# Altium footprint library CF14JT100K.PcbLib: 1 footprints
Each footprint in its own frame and in the unit in brackets; x right, y up, seen from the top. Pads: shape width x height; smd on the part's side, far side on the other; paste and mask are expansions set on the pad; w line width, h text height; cw(c..) or ccw(c..) is an arc to the next point about the centre after c.
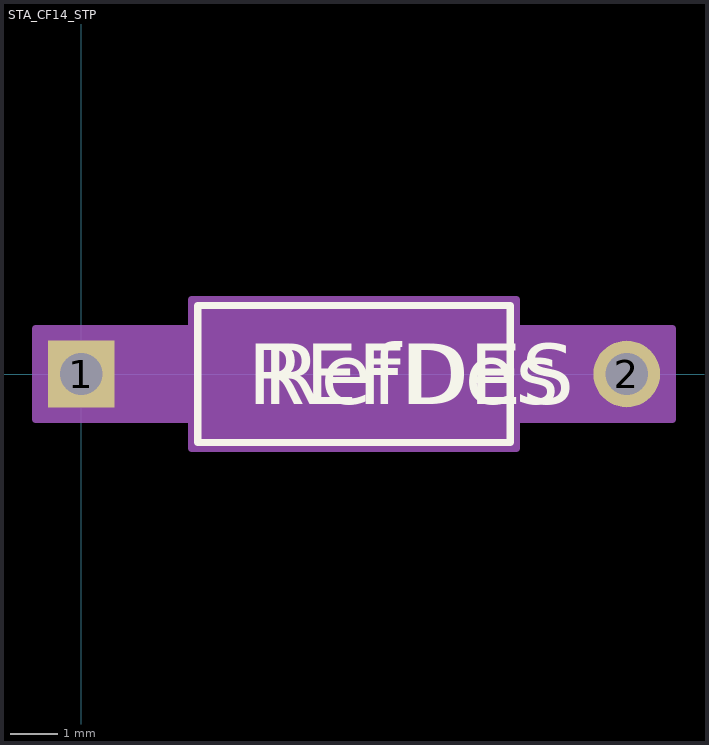
[diagram p0: the footprint, top view; thin cyan lines are the x and y axes]

## STA_CF14_STP [mil]
pads (2):
  rect 55x55 / inner round 60 / far side rect 55x55 hole 35 paste-27.5 mask+0: 1(0,0)
  round 55 / inner round 60 / far side round 55 hole 35 paste-27.5 mask+0: 2(450,0)
Top Overlay:
  lines w6: 96,-56.5 354,-56.5 354,56.5 96,56.5 96,-56.5
  text "RefDes" at 150,-25 h50
  text "REFDES" at 137.5,-25 h50
Mechanical 13:
  lines w1: 0,0 101,0 ; 349,0 450,0 ; 101,-51.5 349,-51.5 349,51.5 101,51.5 101,-51.5
  text "RefDes2" at 137.5,-25 h50
Mechanical 15:
  region: 91,-37.5 -37.5,-37.5 -37.5,37.5 91,37.5 91,61.5 359,61.5 359,37.5 487.5,37.5 487.5,-37.5 359,-37.5 359,-61.5 91,-61.5
  lines w6: -37.5,-37.5 -37.5,37.5 91,37.5 91,61.5 359,61.5 359,37.5 487.5,37.5 487.5,-37.5 359,-37.5 359,-61.5 91,-61.5 91,-37.5 -37.5,-37.5
3D body "STA_CF14_STP.step": height 103, standoff -110, extent -12.48,-51.12 462.48,51.12